# EAGLE library part CS5368 (library CYCFI_data_conv)
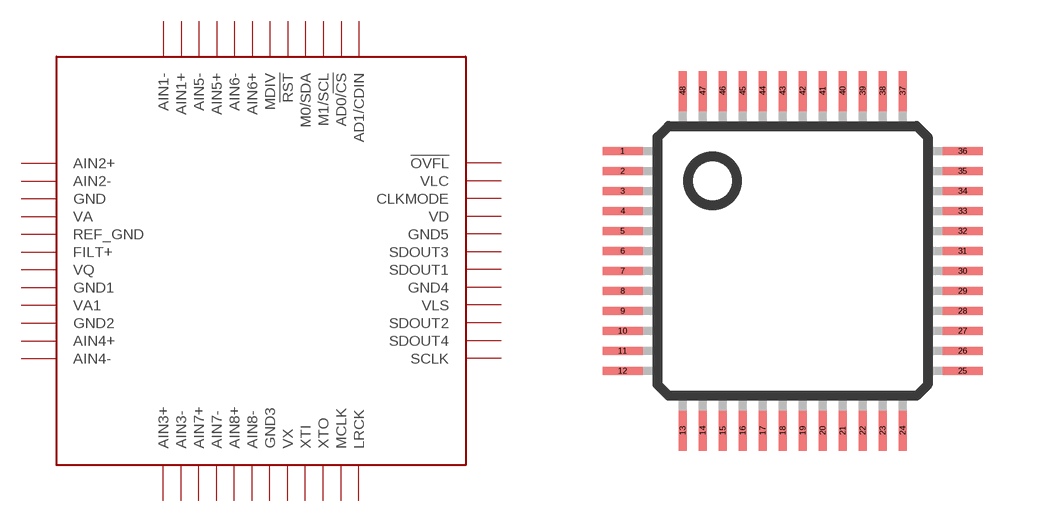
[diagram p1: symbol with the pads of LQFP-48; footprint LQFP-48]

Designator prefix -

## CS5368  [LQFP-48]
1  AIN2+
2  AIN2-
3  GND
4  VA
5  REF_GND
6  FILT+
7  VQ
8  GND1
9  VA1
10  GND2
11  AIN4+
12  AIN4-
13  AIN3+
14  AIN3-
15  AIN7+
16  AIN7-
17  AIN8+
18  AIN8-
19  GND3
20  VX
21  XTI
22  XTO
23  MCLK
24  LRCK
25  SCLK
26  SDOUT4
27  SDOUT2
28  VLS
29  GND4
30  SDOUT1
31  SDOUT3
32  GND5
33  VD
34  CLKMODE
35  VLC
36  !OVFL
37  AD1/CDIN
38  AD0/!CS
39  M1/SCL
40  M0/SDA
41  !RST
42  MDIV
43  AIN6+
44  AIN6-
45  AIN5+
46  AIN5-
47  AIN1+
48  AIN1-

## Footprint LQFP-48 (pad centres in mm)
smd 1 x 0.2: 1 -4.25,2.75; 2 -4.25,2.25; 3 -4.25,1.75; 4 -4.25,1.25; 5 -4.25,0.75; 6 -4.25,0.25; 7 -4.25,-0.25; 8 -4.25,-0.75; 9 -4.25,-1.25; 10 -4.25,-1.75; 11 -4.25,-2.25; 12 -4.25,-2.75; 25 4.25,-2.75; 26 4.25,-2.25; 27 4.25,-1.75; 28 4.25,-1.25; 29 4.25,-0.75; 30 4.25,-0.25; 31 4.25,0.25; 32 4.25,0.75; 33 4.25,1.25; 34 4.25,1.75; 35 4.25,2.25; 36 4.25,2.75
smd 0.2 x 1: 13 -2.75,-4.25; 14 -2.25,-4.25; 15 -1.75,-4.25; 16 -1.25,-4.25; 17 -0.75,-4.25; 18 -0.25,-4.25; 19 0.25,-4.25; 20 0.75,-4.25; 21 1.25,-4.25; 22 1.75,-4.25; 23 2.25,-4.25; 24 2.75,-4.25; 37 2.75,4.25; 38 2.25,4.25; 39 1.75,4.25; 40 1.25,4.25; 41 0.75,4.25; 42 0.25,4.25; 43 -0.25,4.25; 44 -0.75,4.25; 45 -1.25,4.25; 46 -1.75,4.25; 47 -2.25,4.25; 48 -2.75,4.25